# Altium footprint library passive.PcbLib: 2 footprints
Each footprint in its own frame and in the unit in brackets; x right, y up, seen from the top. Pads: shape width x height; smd on the part's side, far side on the other; paste and mask are expansions set on the pad; w line width, h text height; cw(c..) or ccw(c..) is an arc to the next point about the centre after c.
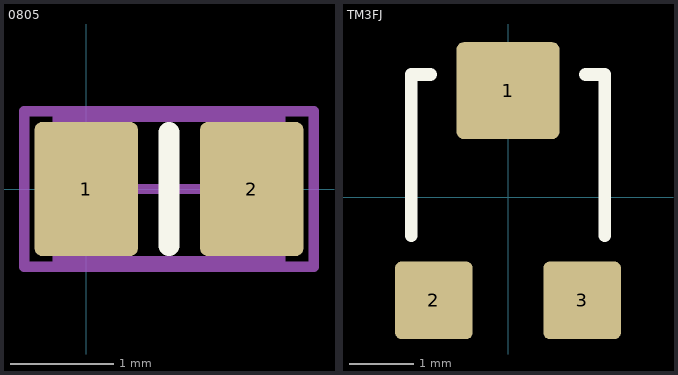
[diagram p0: the footprints below, top view; thin cyan lines are the x and y axes]

## 0805 [mm]
pads (2):
  rrect15% 1x1.3 smd: 1(0,0) 2(1.6,0)
Top Overlay:
  lines w0.2: 0.8,-0.55 0.8,0.55
Mechanical 13:
  lines w0.1: -0.275,-0.7 1.875,-0.7 1.875,0.7 -0.275,0.7 -0.275,-0.7
Mechanical 15:
  lines w0.1: 0.3,0 1.3,0 ; 0.8,-0.5 0.8,0.5 ; -0.6,-0.75 2.2,-0.75 2.2,0.75 -0.6,0.75 -0.6,-0.75
3D body: height 0.7, standoff 0, extent -0.275,-0.7 1.875,0.7

## TM3FJ [mm]
pads (3):
  rrect15% 1.6x1.5 smd paste-0.05: 1(0,1.65)
  rrect15% 1.2x1.2 smd paste-0.05: 2(-1.15,-1.6) 3(1.15,-1.6)
Top Overlay:
  lines w0.2: -1.5,-0.6 -1.5,1.9 -1.2,1.9 ; 1.2,1.9 1.5,1.9 1.5,1.6 1.5,-0.6
3D body: height 1.9, standoff 0, extent -1.5,-1.825 1.5,1.825